# EAGLE library part BATCHARGE-TI-BQ241XX (library Pygmy)
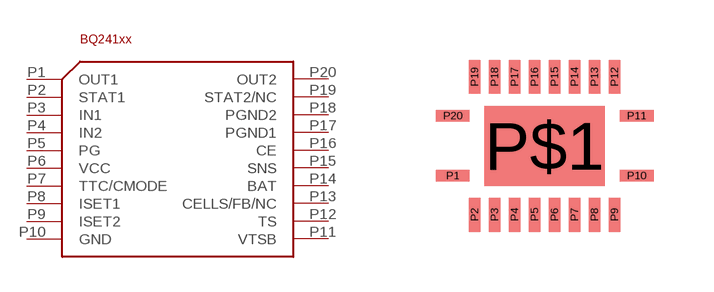
[diagram p83: symbol with the pads of R-PVQFN-N20; footprint R-PVQFN-N20]

Designator prefix -

## BATCHARGE-TI-BQ241XX  [R-PVQFN-N20]
P1  OUT1
P2  STAT1
P3  IN1
P4  IN2
P5  PG
P6  VCC
P7  TTC/CMODE
P8  ISET1
P9  ISET2
P10  GND
P11  VTSB
P12  TS
P13  CELLS/FB/NC
P14  BAT
P15  SNS
P16  CE
P17  PGND1
P18  PGND2
P19  STAT2/NC
P20  OUT2

## Footprint R-PVQFN-N20 (pad centres in mm)
smd 0.85 x 0.28: P1 -2.3,-0.75; P10 2.3,-0.75; P11 2.3,0.75; P20 -2.3,0.75
smd 0.28 x 0.85: P2 -1.75,-1.725; P3 -1.25,-1.725; P4 -0.75,-1.725; P5 -0.25,-1.725; P6 0.25,-1.725; P7 0.75,-1.725; P8 1.25,-1.725; P9 1.75,-1.725; P12 1.75,1.725; P13 1.25,1.725; P14 0.75,1.725; P15 0.25,1.725; P16 -0.25,1.725; P17 -0.75,1.725; P18 -1.25,1.725; P19 -1.75,1.725
smd 3 x 2: P$1 0,0